# Altium schematic symbol library HW.SchLib: 328 symbols (part 2 of 10)
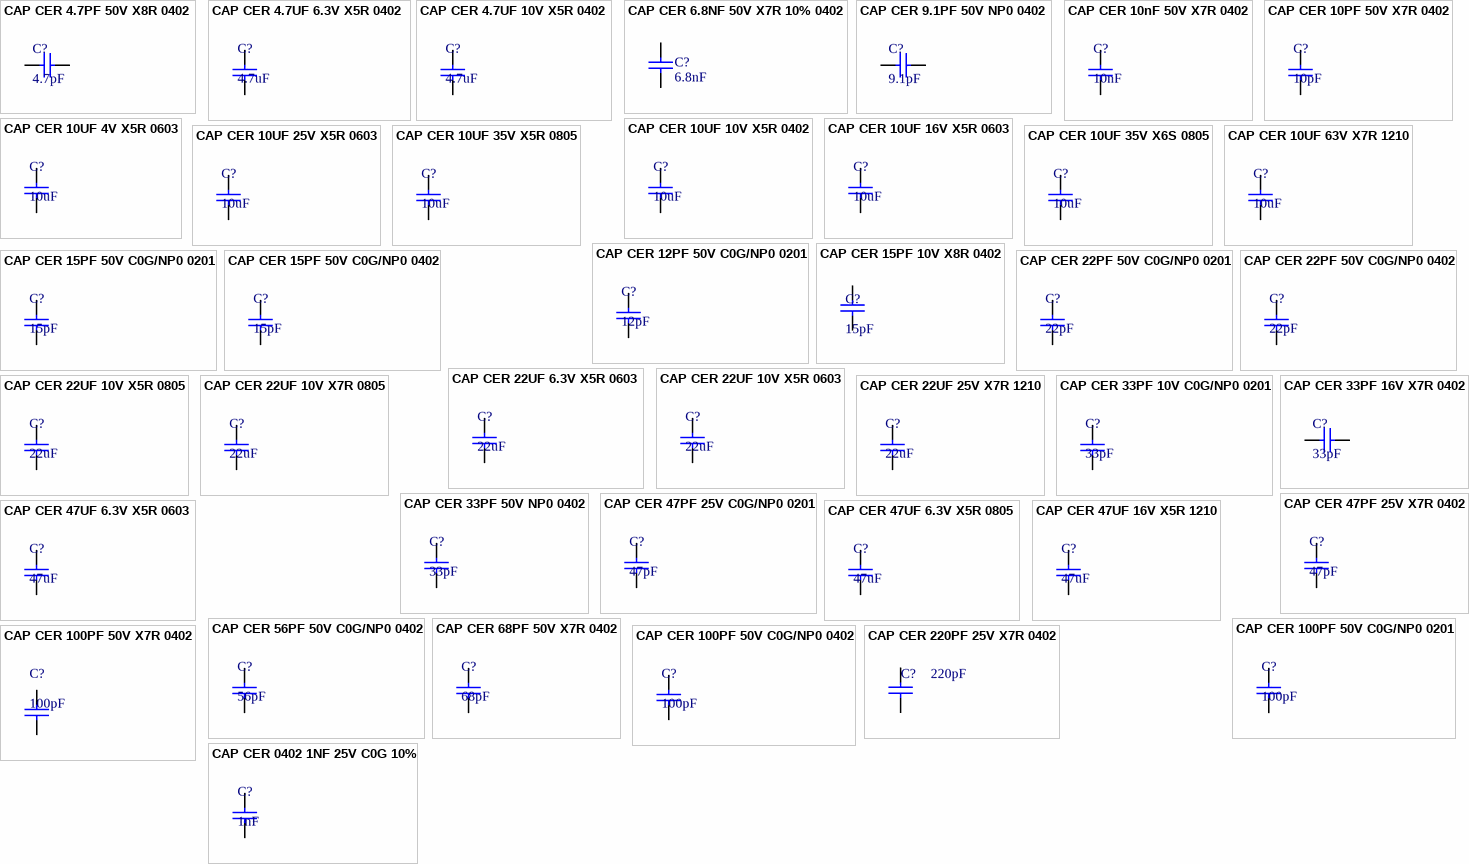
[diagram p24: symbols CAP CER 4.7PF 50V X8R 0402 to CAP CER 0402 1NF 25V C0G 10%]

## CAP CER 4.7UF 6.3V X5R 0402
designator C?, comment 4.7uF
Multilayer Ceramic Capacitor, 4.7 uF, 6.3 V, ± 20%, X5R, 0402 [1005 Metric]; Manufacturer: KEMET; Manufacturer Part Number: C0402C475M9PACTU; Dielectric Material: 4241ConductorMaterial; Voltage Rating: 6.3V; Supplier 1: Mouser; RoHS: Yes; Category: Ceramic Capacitors; Stock 1: 115357; Pricing 1: 1=0.36, 10=0.175, 50=0.175, 100=0.113, 1000=0.095, 10000=0.077 (USD); Mount: Surface Mount; Case/Package: 0402; Case Code (Metric): 1005; Case Code (Imperial): 0402; Material: 4241ConductorMaterial; Min Operating Temperature: -55°C; Max Operating Temperature: 85°C; Capacitance: 4.7uF; Dielectric: X5R; Packaging: Cut Tape; Tolerance: 20%; Series: C; Voltage Rating (DC): 6.3V; Length: 0.039inch; Width: 0.02inch; Height: 650um; Thickness: 0.026inch; Reach SVHC Compliant: No; RoHS Compliant: Yes; Lead Free: 5697LeadFree; ComponentLink1URL: http://www.farnell.com/datasheets/2741307.pdf?src-supplier=Farnell; ComponentLink1Description: http://www.farnell.com/datasheets/2741307.pdf?src-supplier=Farnell; ComponentLink2URL: http://www.farnell.com/datasheets/2741307.pdf?src-supplier=Newark; ComponentLink2Description: http://www.farnell.com/datasheets/2741307.pdf?src-supplier=Newark; ComponentLink3URL: http://www.farnell.com/datasheets/2741307.pdf?src-supplier=Element14; ComponentLink3Description: http://www.farnell.com/datasheets/2741307.pdf?src-supplier=Element14; ComponentLink4URL: https://api.kemet.com/component-edge/download/datasheet/C0402C475M9PAC7867.pdf?src-supplier=Digi-Key; ComponentLink4Description: https://api.kemet.com/component-edge/download/datasheet/C0402C475M9PAC7867.pdf?src-supplier=Digi-Key; Supplier Part Number 1: 80-C0402C475M9P
footprint C0402
pins: 1, 2

## CAP CER 4.7UF 10V X5R 0402
designator C?, comment 4.7uF
Multilayer Ceramic Capacitor, 4.7 uF, 10 V, ± 20%, X5R, 0402 [1005 Metric]; Manufacturer: Murata; Manufacturer Part Number: GRT155R61A475ME13D; Material: 4241ConductorMaterial; Voltage Rating: 10V; Supplier 1: Future Electronics; RoHS: Yes; Category: Ceramic Capacitors; Stock 1: 20000; Pricing 1: 10000=0.0204, 20000=0.0199, 40000=0.0195, 50000=0.0193, 150000=0.0185 (USD); Case/Package: 343Case; Min Operating Temperature: -55°C; Max Operating Temperature: 85°C; Capacitance: 4.7uF; Tolerance: 20%; Length: 1mm; Width: 500um; Height: 650um; Thickness: 500um; RoHS Compliant: Yes; Supplier Part Number 1: 3148759
footprint C0402
pins: 1, 2

## CAP CER 6.8NF 50V X7R 10% 0402
designator C?, comment 6.8nF
Cap Cer 0402 6.8NF 50V X7R 10%; Manufacturer: KEMET; Manufacturer Part Number: C0402C682K5RECAUTO; Supplier 1: Mouser; RoHS: Yes; Category: Ceramic Capacitors; Stock 1: 20191; Pricing 1: 1=0.14, 10=0.057, 50=0.057, 100=0.034, 1000=0.028, 10000=0.02 (USD); Mount: Surface Mount; Case/Package: 0402; Min Operating Temperature: -55°C; Max Operating Temperature: 125°C; Series: ESD SMD Auto X7R; Packaging: Tape and Reel; Capacitance: 6.8nF; Tolerance: 10%; Voltage Rating: 50V; Ratings: AEC-Q200; RoHS Compliant: Yes; ComponentLink1URL: https://api.kemet.com/component-edge/download/datasheet/C0402C682K5RECAUTO.pdf?src-supplier=Digikey; ComponentLink1Description: https://api.kemet.com/component-edge/download/datasheet/C0402C682K5RECAUTO.pdf?src-supplier=Digikey; Supplier Part Number 1: 80-C0402C682K5RECAUT
footprint C0402
pins: 1, 2

## CAP CER 9.1PF 50V NP0 0402
designator C?, comment 9.1pF
Cap Ceramic 9.1pF 50V C0G 0.25pF SMD 0402 125°C Paper T/R; Manufacturer: KEMET; Manufacturer Part Number: C0402C919C5GAC7867; Supplier 1: Digikey; RoHS: Yes; Category: Ceramic Capacitors; Stock 1: 37999; Pricing 1: 1=0.1, 10=0.072, 50=0.0412, 100=0.0319, 500=0.02404, 1000=0.01889, 2500=0.01717, 5000=0.0158 (USD); ComponentLink1URL: https://api.kemet.com/component-edge/download/datasheet/C0402C919C5GAC7867.pdf?src-supplier=Digikey; ComponentLink1Description: https://api.kemet.com/component-edge/download/datasheet/C0402C919C5GAC7867.pdf?src-supplier=Digikey; ComponentLink2URL: http://capacitoredge.kemet.com/capedge2/DataSheet?pn=C0402C919C5GAC7867; ComponentLink2Description: http://capacitoredge.kemet.com/capedge2/DataSheet?pn=C0402C919C5GAC7867; Supplier Part Number 1: 399-14287-1-ND
footprint C0402
pins: 1, 2

## CAP CER 10nF 50V X7R 0402
designator C?, comment 10nF
ESD SMD Auto X7R 0402 (1005Metric) Ceramic Capacitor 0.039Lx0.020W 1.00mmx0.50mm X7R ±5% 10000pF; Manufacturer: KEMET; Manufacturer Part Number: C0402C103J5RECAUTO; Supplier 1: Mouser; RoHS: Yes; Category: Ceramic Capacitors; Stock 1: 37595; Pricing 1: 1=0.17, 10=0.07, 50=0.07, 100=0.041, 1000=0.034, 2500=0.029, 10000=0.025, 20000=0.024, 50000=0.023, 100000=0.017 (USD); RoHS Compliant: Yes; ComponentLink1URL: https://api.kemet.com/component-edge/download/datasheet/C0402C103J5RECAUTO.pdf?src-supplier=Digikey; ComponentLink1Description: https://api.kemet.com/component-edge/download/datasheet/C0402C103J5RECAUTO.pdf?src-supplier=Digikey; Supplier Part Number 1: 80-C0402C103J5RECAUT
footprint C0402
pins: 1, 2

## CAP CER 10PF 50V X7R 0402
designator C?, comment 10pF
Cap Ceramic 10pF 50V X7R 10% SMD 0402 125°C Paper T/R; Manufacturer: KEMET; Manufacturer Part Number: C0402C100K5RAC7867; Dielectric Material: 4241ConductorMaterial; Dielectric: 1511DielectricType; Supplier 1: Digikey; RoHS: Yes; Category: Ceramic Capacitors; Stock 1: 27739; Pricing 1: 1=0.1, 10=0.053, 50=0.0304, 100=0.0235, 500=0.01768, 1000=0.01389, 2500=0.01262, 5000=0.01162 (USD); Case/Package: 343Case; Capacitance: 10pF; Voltage Rating (DC): 50V; Supplier Part Number 1: 399-C0402C100K5RAC7867CT-ND
footprint C0402
pins: 1, 2

## CAP CER 10UF 4V X5R 0603
designator C?, comment 10uF
Ceramic Capacitor, Multilayer, Ceramic, 4V, X5R, -/+15ppm/Cel TC, 10uF, 0603; Manufacturer: KEMET; Manufacturer Part Number: C0603C106M7PAC7411; Supplier 1: Mouser; RoHS: Yes; Category: Ceramic Capacitors; Stock 1: 10482; Pricing 1: 1=0.24, 10=0.1, 50=0.1, 100=0.058, 1000=0.052, 10000=0.042 (USD); RoHS Compliant: Yes; Supplier Part Number 1: 80-C0603C106M7P7411
footprint C0402
pins: 1, 2

## CAP CER 10UF 10V X5R 0402
designator C?, comment 10uF
Multilayer Ceramic Capacitors MLCC - SMD/SMT 0402 10uF 10VDC 20% X5R AEC-Q200; Manufacturer: Murata; Manufacturer Part Number: GRT155R61A106ME13D; Material: 4241ConductorMaterial; Voltage Rating: 10V; Supplier 1: Mouser; RoHS: No; Category: Ceramic Capacitors; Stock 1: 15823; Pricing 1: 1=0.32, 10=0.155, 50=0.155, 100=0.1, 1000=0.083, 10000=0.072 (USD); Case/Package: 343Case; Min Operating Temperature: -55°C; Max Operating Temperature: 85°C; Capacitance: 10uF; Tolerance: 20%; Height: 700um; Supplier Part Number 1: 81-GRT155R61A106ME13
footprint C0402
pins: 1, 2

## CAP CER 10UF 16V X5R 0603
designator C?, comment 10uF
Multilayer Ceramic Capacitor, 10 uF, 16 V, ± 20%, X5R, 0603 [1608 Metric]; Manufacturer: Murata; Manufacturer Part Number: GRM188R61C106MAALD; Supplier 1: Mouser; RoHS: Yes; Category: Ceramic Capacitors; Stock 1: 91365; Pricing 1: 1=0.24, 10=0.111, 50=0.111, 100=0.067, 1000=0.052, 4000=0.048, 8000=0.047, 10000=0.047, 24000=0.045, 100000=0.044 (USD); Supplier Part Number 1: 81-GRM188R61C106MALD
footprint C0603C/1608MM (Chip Capacitor, 2-Leads, Body 1.6x0.8mm, IPC High Density)
pins: 1, 2

## CAP CER 10UF 25V X5R 0603
designator C?, comment 10uF
Multilayer Ceramic Capacitor, 10 uF, 25 V, ± 10%, X5R, 0603 [1608 Metric]; Manufacturer: Murata; Manufacturer Part Number: GRM188R61E106KA73D; Material: 4241ConductorMaterial; Dielectric: 1537DielectricType; Voltage Rating (DC): 25V; Supplier 1: Digikey; RoHS: Yes; Category: Ceramic Capacitors; Stock 1: 230315; Pricing 1: 1=0.26, 10=0.169, 50=0.1186, 100=0.0958, 500=0.0712, 1000=0.06229 (USD); Length: 1.6mm; Width: 800um; Height: 1mm; Thickness: 800um; ComponentLink1URL: https://datasheet.octopart.com/GRM188R61E106KA73D-Murata-datasheet-149523249.pdf?src-supplier=Newark; ComponentLink1Description: https://datasheet.octopart.com/GRM188R61E106KA73D-Murata-datasheet-149523249.pdf?src-supplier=Newark; ComponentLink2URL: https://search.murata.co.jp/Ceramy/image/img/A01X/G101/ENG/GRM188R61E106KA73-01.pdf?src-supplier=Digikey; ComponentLink2Description: https://search.murata.co.jp/Ceramy/image/img/A01X/G101/ENG/GRM188R61E106KA73-01.pdf?src-supplier=Digikey; ComponentLink3URL: https://datasheet.octopart.com/GRM188R61E106KA73D-Murata-datasheet-165579666.pdf?src-supplier=TME; ComponentLink3Description: https://datasheet.octopart.com/GRM188R61E106KA73D-Murata-datasheet-165579666.pdf?src-supplier=TME; Supplier Part Number 1: 490-18214-1-ND
footprint C0603C/1608MM (Chip Capacitor, 2-Leads, Body 1.6x0.8mm, IPC High Density)
pins: 1, 2

## CAP CER 10UF 35V X5R 0805
designator C?, comment 10uF
Multilayer Ceramic Capacitor, 10 uF, 35 V, ± 10%, X5R, 0805 [2012 Metric]; Manufacturer: TDK; Manufacturer Part Number: C2012X5R1V106K125AC; Material: 4241ConductorMaterial; Voltage Rating: 35V; Supplier 1: Avnet; RoHS: Yes; Category: Ceramic Capacitors; Stock 1: 2000; Pricing 1: 2000=0.169, 4000=0.164, 8000=0.157, 12000=0.15 (USD); Mount: Surface Mount; Case/Package: 0805; Case Code (Metric): 2012; Case Code (Imperial): 0805; Weight: 0.000194oz; Dielectric Material: Ceramic; Min Operating Temperature: -55°C; Max Operating Temperature: 85°C; Package Quantity: 2000; Packaging: Tape and Reel; Capacitance: 10uF; Tolerance: 10%; Dielectric: X5R; Termination: SMD/SMT; Voltage Rating (DC): 35V; Series: C; Length: 2mm; Width: 1.25mm; Height: 1.25mm; Reach SVHC Compliant: No; Lead Free: Lead Free; RoHS Compliant: Yes; ComponentLink1URL: https://datasheet.ciiva.com/14886/tdkmlcccaprange-14886603.pdf?src-supplier=Digikey; ComponentLink1Description: https://datasheet.ciiva.com/14886/tdkmlcccaprange-14886603.pdf?src-supplier=Digikey; ComponentLink2URL: https://datasheet.ciiva.com/14886/tdkmlcccaprange-14886602.pdf?src-supplier=Digikey; ComponentLink2Description: https://datasheet.ciiva.com/14886/tdkmlcccaprange-14886602.pdf?src-supplier=Digikey; ComponentLink3URL: https://datasheet.ciiva.com/14886/tdkmlcccaprange-14886604.pdf?src-supplier=Digikey; ComponentLink3Description: https://datasheet.ciiva.com/14886/tdkmlcccaprange-14886604.pdf?src-supplier=Digikey; Supplier Part Number 1: 92AH4428
footprint C0805B/2012MM (Chip Capacitor, 2-Leads, Body 2.0x1.3mm, IPC Medium Density)
pins: 1, 2

## CAP CER 10UF 35V X6S 0805
designator C?, comment 10uF
Multilayer Ceramic Capacitor, 10 uF, 35 V, ± 10%, X6S, 0805 [2012 Metric]; Manufacturer: Murata; Manufacturer Part Number: GRM21BC8YA106KE11L; Material: 4241ConductorMaterial; Voltage Rating: 35V; Supplier 1: Mouser; RoHS: Yes; Category: Ceramic Capacitors; Stock 1: 89886; Pricing 1: 1=0.41, 10=0.212, 50=0.212, 100=0.137, 1000=0.11, 10000=0.087 (USD); Mount: Surface Mount; Case/Package: 0805; Case Code (Metric): 2012; Case Code (Imperial): 0805; Weight: 0.000335oz; Min Operating Temperature: -55°C; Max Operating Temperature: 105°C; Capacitance: 10uF; Packaging: Tape and Reel; Dielectric: X6S; Tolerance: 10%; Termination: SMD/SMT; Voltage Rating (DC): 35V; Package Quantity: 3000; Series: GRM; Length: 0.079inch; Width: 0.049inch; Height: 1.25mm; Thickness: 0.057inch; Reach SVHC Compliant: No; Lead Free: Lead Free; RoHS Compliant: Yes; ComponentLink1URL: http://www.farnell.com/datasheets/2079180.pdf?src-supplier=Farnell; ComponentLink1Description: http://www.farnell.com/datasheets/2079180.pdf?src-supplier=Farnell; ComponentLink2URL: http://www.mouser.com/ds/2/281/c02e-2905.pdf?src-supplier=Mouser; ComponentLink2Description: http://www.mouser.com/ds/2/281/c02e-2905.pdf?src-supplier=Mouser; ComponentLink3URL: https://datasheet.octopart.com/GRM21BC8YA106KE11L-Murata-datasheet-66077106.pdf?src-supplier=Element14; ComponentLink3Description: https://datasheet.octopart.com/GRM21BC8YA106KE11L-Murata-datasheet-66077106.pdf?src-supplier=Element14; ComponentLink4URL: https://datasheet.octopart.com/GRM21BC8YA106KE11L-Murata-datasheet-149523463.pdf?src-supplier=Farnell; ComponentLink4Description: https://datasheet.octopart.com/GRM21BC8YA106KE11L-Murata-datasheet-149523463.pdf?src-supplier=Farnell; ComponentLink5URL: http://search.murata.co.jp/Ceramy/image/img/A01X/G101/ENG/GRM21BC8YA106KE11-01.pdf?src-supplier=Digikey; ComponentLink5Description: http://search.murata.co.jp/Ceramy/image/img/A01X/G101/ENG/GRM21BC8YA106KE11-01.pdf?src-supplier=Digikey; ComponentLink6URL: https://datasheet.octopart.com/GRM21BC8YA106KE11L-Murata-datasheet-22122223.pdf?src-supplier=Future+Electronics; ComponentLink6Description: https://datasheet.octopart.com/GRM21BC8YA106KE11L-Murata-datasheet-22122223.pdf?src-supplier=Future+Electronics; ComponentLink7URL: http://www.farnell.com/datasheets/2079180.pdf?src-supplier=Newark; ComponentLink7Description: http://www.farnell.com/datasheets/2079180.pdf?src-supplier=Newark; ComponentLink8URL: https://datasheet.octopart.com/GRM21BC8YA106KE11L-Murata-datasheet-165579666.pdf?src-supplier=TME; ComponentLink8Description: https://datasheet.octopart.com/GRM21BC8YA106KE11L-Murata-datasheet-165579666.pdf?src-supplier=TME; Supplier Part Number 1: 81-GRM21BC8YA106KE1L
footprint C0805B/2012MM (Chip Capacitor, 2-Leads, Body 2.0x1.3mm, IPC Medium Density)
pins: 1, 2

## CAP CER 10UF 63V X7R 1210
designator C?, comment 10uF
Multilayer Ceramic Capacitors MLCC - SMD/SMT 1210 10uF 63volts *Derate Voltage/Temp; Manufacturer: Murata; Manufacturer Part Number: GRM32ER71J106KA12L; Supplier 1: Mouser; RoHS: Yes; Category: Ceramic Capacitors; Stock 1: 157157; Pricing 1: 1=1.05, 10=0.674, 50=0.674, 100=0.547, 500=0.449, 1000=0.37, 2000=0.34, 10000=0.326, 25000=0.318 (USD); ComponentLink1URL: http://www.farnell.com/datasheets/2079202.pdf?src-supplier=Farnell; ComponentLink1Description: http://www.farnell.com/datasheets/2079202.pdf?src-supplier=Farnell; ComponentLink2URL: http://www.mouser.com/ds/2/281/c02e-2905.pdf?src-supplier=Mouser; ComponentLink2Description: http://www.mouser.com/ds/2/281/c02e-2905.pdf?src-supplier=Mouser; ComponentLink3URL: http://search.murata.co.jp/Ceramy/image/img/A01X/G101/ENG/GRM32ER71J106KA12-01.pdf?src-supplier=Digikey; ComponentLink3Description: http://search.murata.co.jp/Ceramy/image/img/A01X/G101/ENG/GRM32ER71J106KA12-01.pdf?src-supplier=Digikey; ComponentLink4URL: https://datasheet.octopart.com/GRM32ER71J106KA12L-Murata-datasheet-22122223.pdf?src-supplier=Future+Electronics; ComponentLink4Description: https://datasheet.octopart.com/GRM32ER71J106KA12L-Murata-datasheet-22122223.pdf?src-supplier=Future+Electronics; ComponentLink5URL: http://psearch.en.murata.com/capacitor/product/GRM32ER71J106KA12%23.pdf?src-supplier=Avnet; ComponentLink5Description: http://psearch.en.murata.com/capacitor/product/GRM32ER71J106KA12%23.pdf?src-supplier=Avnet; ComponentLink6URL: http://www.farnell.com/datasheets/2079202.pdf?src-supplier=Element14; ComponentLink6Description: http://www.farnell.com/datasheets/2079202.pdf?src-supplier=Element14; ComponentLink7URL: http://www.farnell.com/datasheets/2079202.pdf?src-supplier=Newark; ComponentLink7Description: http://www.farnell.com/datasheets/2079202.pdf?src-supplier=Newark; Supplier Part Number 1: 81-GRM32ER71J106KA2L
footprint C1210/3225MM
pins: 1, 2

## CAP CER 12PF 50V C0G/NP0 0201
designator C?, comment 12pF
Multilayer Ceramic Capacitor, 12 pF, 50 V, ± 1%, C0G (NP0), 0201 [0603 Metric]; Manufacturer: Murata; Manufacturer Part Number: GRM0335C1H120FA01D; Supplier 1: Future Electronics; RoHS: Yes; Category: Ceramic Capacitors; Stock 1: 15000; Pricing 1: 15000=0.0043, 45000=0.0041, 75000=0.004, 300000=0.0038, 450000=0.0037 (USD); ComponentLink1URL: https://datasheet.octopart.com/GRM0335C1H120FA01D-Murata-datasheet-165579666.pdf?src-supplier=TME; ComponentLink1Description: https://datasheet.octopart.com/GRM0335C1H120FA01D-Murata-datasheet-165579666.pdf?src-supplier=TME; Supplier Part Number 1: 6135170
footprint C0201
pins: 1, 2

## CAP CER 15PF 10V X8R 0402
designator C?, comment 15pF
Cap Cer 0402 15PF 10V Ultra Stab; Manufacturer: KEMET; Manufacturer Part Number: C0402C150J8HAC7867; Supplier 1: Digikey; RoHS: No; Category: Ceramic Capacitors; Stock 1: 19700; Pricing 1: 1=0.1, 10=0.036, 50=0.0206, 100=0.016, 500=0.01202, 1000=0.00944, 2500=0.00858, 5000=0.0079 (USD); Supplier Part Number 1: 399-C0402C150J8HAC7867CT-ND
footprint C0402
pins: 1, 2

## CAP CER 15PF 50V C0G/NP0 0201
designator C?, comment 15pF
0201 15pF 50V C0G 1% - Multilayer Ceramic Capacitors; Manufacturer: Murata; Manufacturer Part Number: GRM0335C1H150FA01D; Supplier 1: Mouser; RoHS: Yes; Category: Ceramic Capacitors; Stock 1: 89127; Pricing 1: 1=0.1, 10=0.019, 50=0.019, 100=0.011, 1000=0.007, 10000=0.006 (USD); ComponentLink1URL: https://datasheet.octopart.com/GRM0335C1H150FA01D-Murata-datasheet-165579666.pdf?src-supplier=TME; ComponentLink1Description: https://datasheet.octopart.com/GRM0335C1H150FA01D-Murata-datasheet-165579666.pdf?src-supplier=TME; Supplier Part Number 1: 81-GRM0335C1H150FA1D
footprint C0201
pins: 1, 2

## CAP CER 15PF 50V C0G/NP0 0402
designator C?, comment 15pF
Cap Ceramic 15pF 50V C0G 1% Pad SMD 0402 125C Automotive T/R; Manufacturer: Murata; Manufacturer Part Number: GCM1555C1H150FA16D; Supplier 1: Future Electronics; RoHS: Yes; Category: Ceramic Capacitors; Stock 1: 50000; Pricing 1: 50000=0.0082, 100000=0.008, 150000=0.0079, 200000=0.0079, 250000=0.0077 (USD); ComponentLink1URL: http://search.murata.co.jp/Ceramy/image/img/A01X/G101/ENG/GCM1555C1H150FA16-01.pdf?src-supplier=Digikey; ComponentLink1Description: http://search.murata.co.jp/Ceramy/image/img/A01X/G101/ENG/GCM1555C1H150FA16-01.pdf?src-supplier=Digikey; ComponentLink2URL: http://search.murata.co.jp/Ceramy/image/img/A01X/partnumbering_e_02.pdf?src-supplier=Digikey; ComponentLink2Description: http://search.murata.co.jp/Ceramy/image/img/A01X/partnumbering_e_02.pdf?src-supplier=Digikey; ComponentLink3URL: https://datasheet.octopart.com/GCM1555C1H150FA16D-Murata-datasheet-149522311.pdf?src-supplier=Newark; ComponentLink3Description: https://datasheet.octopart.com/GCM1555C1H150FA16D-Murata-datasheet-149522311.pdf?src-supplier=Newark; ComponentLink4URL: https://datasheet.octopart.com/GCM1555C1H150FA16D-Murata-datasheet-12511495.pdf?src-supplier=TME; ComponentLink4Description: https://datasheet.octopart.com/GCM1555C1H150FA16D-Murata-datasheet-12511495.pdf?src-supplier=TME; Supplier Part Number 1: 6128733
footprint C0402
pins: 1, 2

## CAP CER 22PF 50V C0G/NP0 0201
designator C?, comment 22pF
Multilayer Ceramic Capacitor, 22 pF, 50 V, ± 5%, C0G (NP0), 0201 [0603 Metric]; Manufacturer: Murata; Manufacturer Part Number: GRM0335C1H220JA01D; Voltage Rating: 50V; Temperature Coefficient: 30ppm/°C; Supplier 1: Future Electronics; RoHS: Yes; Category: Ceramic Capacitors; Stock 1: 60000; Pricing 1: 15000=0.0014, 60000=0.0013, 300000=0.0013, 600000=0.0012, 1875000=0.0011 (USD); Mount: Surface Mount; Case/Package: 0201; Case Code (Metric): 0603; Case Code (Imperial): 0201; Material: Ceramic; Min Operating Temperature: -55°C; Max Operating Temperature: 125°C; Package Quantity: 1; Capacitance: 22pF; Tolerance: 5%; Packaging: Tape and Reel; Dielectric: C0G; Termination: SMD/SMT; Voltage: 50V; Voltage Rating (DC): 50V; Series: GRM; Length: 0.024inch; Width: 0.012inch; Height: 0.3mm; Depth: 0.3mm; Lead Free: Lead Free; RoHS Compliant: Yes; ComponentLink1URL: https://datasheet.ciiva.com/6271/partnumbering-e-01-6271146.pdf?src-supplier=Digikey; ComponentLink1Description: https://datasheet.ciiva.com/6271/partnumbering-e-01-6271146.pdf?src-supplier=Digikey; ComponentLink2URL: https://datasheet.ciiva.com/6271/partnumbering-e-01-6271143.pdf?src-supplier=Digikey; ComponentLink2Description: https://datasheet.ciiva.com/6271/partnumbering-e-01-6271143.pdf?src-supplier=Digikey; ComponentLink3URL: https://datasheet.ciiva.com/6271/partnumbering-e-01-6271149.pdf?src-supplier=Digikey; ComponentLink3Description: https://datasheet.ciiva.com/6271/partnumbering-e-01-6271149.pdf?src-supplier=Digikey; Supplier Part Number 1: 2083835
footprint C0201
pins: 1, 2

## CAP CER 22PF 50V C0G/NP0 0402
designator C?, comment 22pF
Multilayer Ceramic Capacitor, 22 pF, 50 V, ï¿½ 1%, C0G (NP0), 0402 [1005 Metric]; Manufacturer: Murata; Manufacturer Part Number: GRM1555C1H220FA01D; Supplier 1: Future Electronics; RoHS: Yes; Category: Ceramic Capacitors; Stock 1: 20000; Pricing 1: 10000=0.0084, 30000=0.0082, 50000=0.0081, 150000=0.0079, 250000=0.0077 (USD); Lead Free: 5697LeadFree; RoHS Compliant: 5897YesNo; ComponentLink1URL: https://datasheet.ciiva.com/11789/0900766b80ef921d-11789137.pdf?src-supplier=Rs; ComponentLink1Description: https://datasheet.ciiva.com/11789/0900766b80ef921d-11789137.pdf?src-supplier=Rs; ComponentLink2URL: https://datasheet.ciiva.com/29534/partnumbering-e-01-29534686.pdf?src-supplier=Digikey; ComponentLink2Description: https://datasheet.ciiva.com/29534/partnumbering-e-01-29534686.pdf?src-supplier=Digikey; ComponentLink3URL: https://datasheet.ciiva.com/29536/partnumbering-e-01-29536087.pdf?src-supplier=Digikey; ComponentLink3Description: https://datasheet.ciiva.com/29536/partnumbering-e-01-29536087.pdf?src-supplier=Digikey; ComponentLink4URL: https://datasheet.ciiva.com/29536/partnumbering-e-01-29536088.pdf?src-supplier=Digikey; ComponentLink4Description: https://datasheet.ciiva.com/29536/partnumbering-e-01-29536088.pdf?src-supplier=Digikey; Supplier Part Number 1: 2060471
footprint C0402
pins: 1, 2

## CAP CER 22UF 6.3V X5R 0603
designator C?, comment 22uF
Cap Ceramic 22uF 6.3V X5R 20% SMD 0603 85°C Paper T/R; Manufacturer: KEMET; Manufacturer Part Number: C0603C226M9PAC7867; Dielectric: 1537DielectricType; Supplier 1: Digikey; RoHS: No; Category: Ceramic Capacitors; Stock 1: 3721; Pricing 1: 1=0.63, 10=0.425, 50=0.3384, 100=0.2795, 500=0.21836, 1000=0.18561 (USD); Case/Package: 345Case; Capacitance: 22uF; Voltage Rating (DC): 6.3V; Lead Free: 5697LeadFree; Supplier Part Number 1: 399-C0603C226M9PAC7867CT-ND
footprint C0603C/1608MM (Chip Capacitor, 2-Leads, Body 1.6x0.8mm, IPC High Density)
pins: 1, 2

## CAP CER 22UF 10V X5R 0603
designator C?, comment 22uF
Multilayer Ceramic Capacitor, 22 uF, 10 V, ± 20%, X5R, 0603 [1608 Metric]; Manufacturer: Murata; Manufacturer Part Number: GRM188R61A226ME15D; Voltage Rating: 10V; Supplier 1: Future Electronics; RoHS: Yes; Category: Ceramic Capacitors; Stock 1: 720000; Pricing 1: 4000=0.0273, 12000=0.0263, 20000=0.0258, 40000=0.0252, 80000=0.0243 (USD); Mount: Surface Mount; Case/Package: 0603; Case Code (Metric): 1608; Case Code (Imperial): 0603; Material: Ceramic; Weight: 0.000222oz; Min Operating Temperature: -55°C; Max Operating Temperature: 85°C; Capacitance: 22uF; Tolerance: 20%; Packaging: Cut Tape; Dielectric: X5R; Termination: SMD/SMT; Voltage Rating (DC): 10V; Package Quantity: 4000; Series: GRM; Length: 1.6mm; Width: 0.8mm; Height: 0.8mm; Thickness: 0.039inch; Reach SVHC Compliant: No; RoHS Compliant: Yes; Lead Free: 5697LeadFree; ComponentLink1URL: https://datasheet.ciiva.com/46444/1769893-46444975.pdf?src-supplier=Element14; ComponentLink1Description: https://datasheet.ciiva.com/46444/1769893-46444975.pdf?src-supplier=Element14; Supplier Part Number 1: 4058054
footprint C0603C/1608MM (Chip Capacitor, 2-Leads, Body 1.6x0.8mm, IPC High Density)
pins: 1, 2

## CAP CER 22UF 10V X5R 0805
designator C?, comment 22uF
Multilayer Ceramic Capacitors (High dielectric type), 10V, 22 uF, ± 20 %, 0805, X5R, RoHS; Manufacturer: Taiyo Yuden; Manufacturer Part Number: LMK212BBJ226MG-T; Tolerance: 20%; Supplier 1: Avnet; RoHS: Yes; Category: Ceramic Capacitors; Stock 1: 123000; Pricing 1: 3000=0.04824, 6000=0.04715, 12000=0.04499, 18000=0.0439, 24000=0.04282 (USD); Mount: Surface Mount; Case/Package: 0805; Min Operating Temperature: -55°C; Max Operating Temperature: 85°C; Capacitance: 22uF; Dielectric: X5R; Voltage: 10V; Series: M; Voltage Rating (DC): 10V; Length: 2mm; Height: 1.25mm; Depth: 1.25mm; RoHS Compliant: Yes; ComponentLink1URL: https://datasheet.octopart.com/LMK212BBJ226MG-T-Taiyo-Yuden-datasheet-99833423.pdf?src-supplier=Future+Electronics; ComponentLink1Description: https://datasheet.octopart.com/LMK212BBJ226MG-T-Taiyo-Yuden-datasheet-99833423.pdf?src-supplier=Future+Electronics; ComponentLink2URL: http://ds.yuden.co.jp/TYCOMPAS/ut/detail.do?productNo=LMK212BBJ226MG-T&fileName=LMK212BBJ226MG-T_SS&mode=specSheetDownload&src-supplier=Digikey; ComponentLink2Description: http://ds.yuden.co.jp/TYCOMPAS/ut/detail.do?productNo=LMK212BBJ226MG-T&fileName=LMK212BBJ226MG-T_SS&mode=specSheetDownload&src-supplier=Digikey; ComponentLink3URL: https://ds.yuden.co.jp/TYCOMPAS/ut/detail?pn=LMK212BBJ226MG-T &amp;u=M&src-supplier=Digikey; ComponentLink3Description: https://ds.yuden.co.jp/TYCOMPAS/ut/detail?pn=LMK212BBJ226MG-T &amp;u=M&src-supplier=Digikey; ComponentLink4URL: https://datasheet.octopart.com/LMK212BBJ226MG-T-Taiyo-Yuden-datasheet-154807940.pdf?src-supplier=Master+Electronics; ComponentLink4Description: https://datasheet.octopart.com/LMK212BBJ226MG-T-Taiyo-Yuden-datasheet-154807940.pdf?src-supplier=Master+Electronics; Supplier Part Number 1: LMK212BBJ226MG-T
footprint C0805B/2012MM (Chip Capacitor, 2-Leads, Body 2.0x1.3mm, IPC Medium Density)
pins: 1, 2

## CAP CER 22UF 10V X7R 0805
designator C?, comment 22uF
Multilayer Ceramic Capacitor, 22 uF, 10 V, ± 20%, X7R, 0805 [2012 Metric]; Manufacturer: Murata; Manufacturer Part Number: GRM21BZ71A226ME15L; Material: 4241ConductorMaterial; Voltage Rating: 10V; Supplier 1: Digikey; RoHS: Yes; Category: Ceramic Capacitors; Stock 1: 88859; Pricing 1: 1=0.37, 10=0.247, 50=0.1818, 100=0.148, 500=0.11682, 1000=0.09865 (USD); Case/Package: 339Case; Min Operating Temperature: -55°C; Max Operating Temperature: 125°C; Tolerance: 20%; Capacitance: 22uF; Length: 2mm; Width: 1.25mm; Height: 1.45mm; Thickness: 1.25mm; ComponentLink1URL: https://datasheet.octopart.com/GRM21BZ71A226ME15L-Murata-datasheet-165579666.pdf?src-supplier=TME; ComponentLink1Description: https://datasheet.octopart.com/GRM21BZ71A226ME15L-Murata-datasheet-165579666.pdf?src-supplier=TME; Supplier Part Number 1: 490-GRM21BZ71A226ME15LCT-ND
footprint C0805B/2012MM (Chip Capacitor, 2-Leads, Body 2.0x1.3mm, IPC Medium Density)
pins: 1, 2

## CAP CER 22UF 25V X7R 1210
designator C?, comment 22uF
Multilayer Ceramic Capacitor, 22 uF, 25 V, ± 10%, X7R, 1210 [3225 Metric]; Manufacturer: Murata; Manufacturer Part Number: GRM32ER71E226KE15L; Color: 46Colour; Voltage Rating: 25V; Current Rating: 3A; Gender: 29Gender; Supplier 1: Mouser; RoHS: Yes; Category: Ceramic Capacitors; Stock 1: 193776; Pricing 1: 1=0.66, 10=0.438, 50=0.438, 100=0.358, 500=0.306, 1000=0.258, 2000=0.242, 5000=0.226, 10000=0.218, 25000=0.209 (USD); Mount: Surface Mount; Case/Package: 1210; Number of Pins: 2; Case Code (Metric): 3225; Case Code (Imperial): 1210; Material: Ceramic; Contact Material: 150ConductorMaterial; Contact Plating: 157ConductorMaterial; Min Operating Temperature: -55°C; Max Operating Temperature: 125°C; Capacitance: 22uF; Tolerance: 10%; Dielectric: X7R; Packaging: Tape and Reel; Package Quantity: 1; Voltage Rating (DC): 25V; Termination: SMD/SMT; Voltage: 25V; Series: GRM; Construction: Flat; Length: 3.2mm; Width: 0.098inch; Height: 2.5mm; Thickness: 0.106inch; Depth: 2.5mm; Lead Pitch: 2.54mm; Radiation Hardening: No; Reach SVHC Compliant: No; Lead Free: Lead Free; RoHS Compliant: Yes; ComponentLink1URL: https://datasheet.ciiva.com/6072/1697714-6072768.pdf?src-supplier=Farnell; ComponentLink1Description: https://datasheet.ciiva.com/6072/1697714-6072768.pdf?src-supplier=Farnell; ComponentLink2URL: https://datasheet.ciiva.com/3776/2741grm32er71e226ke1523-3776996.pdf?src-supplier=Arrow+Electronics; ComponentLink2Description: https://datasheet.ciiva.com/3776/2741grm32er71e226ke1523-3776996.pdf?src-supplier=Arrow+Electronics; ComponentLink3URL: https://datasheet.ciiva.com/11789/0900766b80ef921d-11789129.pdf?src-supplier=Rs; ComponentLink3Description: https://datasheet.ciiva.com/11789/0900766b80ef921d-11789129.pdf?src-supplier=Rs; ComponentLink4URL: https://datasheet.ciiva.com/16497/product-16497009.pdf?src-supplier=Future+Electronics; ComponentLink4Description: https://datasheet.ciiva.com/16497/product-16497009.pdf?src-supplier=Future+Electronics; ComponentLink5URL: https://datasheet.ciiva.com/29201/451826-da-01-de-vs-kondens-grm32-er71e-226ke15l-29201795.pdf?src-supplier=Conrad; ComponentLink5Description: https://datasheet.ciiva.com/29201/451826-da-01-de-vs-kondens-grm32-er71e-226ke15l-29201795.pdf?src-supplier=Conrad; ComponentLink6URL: https://datasheet.ciiva.com/175/partnumbering-e-01-175746.pdf?src-supplier=Digikey; ComponentLink6Description: https://datasheet.ciiva.com/175/partnumbering-e-01-175746.pdf?src-supplier=Digikey; ComponentLink7URL: https://datasheet.ciiva.com/175/partnumbering-e-01-175747.pdf?src-supplier=Digikey; ComponentLink7Description: https://datasheet.ciiva.com/175/partnumbering-e-01-175747.pdf?src-supplier=Digikey; ComponentLink8URL: https://datasheet.ciiva.com/175/partnumbering-e-01-175748.pdf?src-supplier=Digikey; ComponentLink8Description: https://datasheet.ciiva.com/175/partnumbering-e-01-175748.pdf?src-supplier=Digikey; ComponentLink9URL: https://datasheet.ciiva.com/22703/1697714-22703397.pdf?src-supplier=Element14; ComponentLink9Description: https://datasheet.ciiva.com/22703/1697714-22703397.pdf?src-supplier=Element14; Supplier Part Number 1: 81-GRM32ER71E226KE5L
footprint C1210/3225MM
pins: 1, 2

## CAP CER 33PF 10V C0G/NP0 0201
designator C?, comment 33pF
Cap Ceramic 33pF 10V C0G 5% SMD 0201 125°C Paper T/R; Manufacturer: KEMET; Manufacturer Part Number: C0201C330J8GAC7867; Supplier 1: Digikey; RoHS: Yes; Category: Ceramic Capacitors; Stock 1: 22116; Pricing 1: 1=0.1, 10=0.033, 50=0.0192, 100=0.0149, 500=0.01118, 1000=0.00879, 2500=0.00799, 5000=0.00735 (USD); Mount: Surface Mount; Case/Package: 0201; Min Operating Temperature: -55°C; Max Operating Temperature: 125°C; Series: SMD Comm C0G; Tolerance: 5%; Voltage Rating: 10V; Capacitance: 33pF; RoHS Compliant: Yes; Supplier Part Number 1: 399-C0201C330J8GAC7867CT-ND
footprint C0201
pins: 1, 2

## CAP CER 33PF 16V X7R 0402
designator C?, comment 33pF
Cap Ceramic 33pF 16V X7R 5% Pad SMD 0402 125C Automotive T/R; Manufacturer: KEMET; Manufacturer Part Number: C0402C330J4RACAUTO; Supplier 1: Mouser; RoHS: Yes; Category: Ceramic Capacitors; Stock 1: 35123; Pricing 1: 1=0.13, 10=0.055, 50=0.055, 100=0.032, 1000=0.027, 2500=0.023, 10000=0.022, 20000=0.019, 50000=0.017, 100000=0.014 (USD); ComponentLink1URL: http://www.farnell.com/datasheets/2749605.pdf?src-supplier=Farnell; ComponentLink1Description: http://www.farnell.com/datasheets/2749605.pdf?src-supplier=Farnell; ComponentLink2URL: https://datasheet.octopart.com/C0402C330J4RACAUTO-KEMET-datasheet-169906450.pdf?src-supplier=Newark; ComponentLink2Description: https://datasheet.octopart.com/C0402C330J4RACAUTO-KEMET-datasheet-169906450.pdf?src-supplier=Newark; ComponentLink3URL: http://www.farnell.com/datasheets/2749605.pdf?src-supplier=Newark; ComponentLink3Description: http://www.farnell.com/datasheets/2749605.pdf?src-supplier=Newark; ComponentLink4URL: https://datasheet.octopart.com/C0402C330J4RACAUTO-KEMET-datasheet-149521674.pdf?src-supplier=Farnell; ComponentLink4Description: https://datasheet.octopart.com/C0402C330J4RACAUTO-KEMET-datasheet-149521674.pdf?src-supplier=Farnell; ComponentLink5URL: https://api.kemet.com/component-edge/download/datasheet/C0402C330J4RACAUTO.pdf?src-supplier=Digikey; ComponentLink5Description: https://api.kemet.com/component-edge/download/datasheet/C0402C330J4RACAUTO.pdf?src-supplier=Digikey; ComponentLink6URL: https://search.kemet.com/component-edge/download/datasheet/C0402C330J4RACAUTO.pdf?src-supplier=Digikey; ComponentLink6Description: https://search.kemet.com/component-edge/download/datasheet/C0402C330J4RACAUTO.pdf?src-supplier=Digikey; ComponentLink7URL: http://www.kemet.com/docfinder?Partnumber=C0402C330J4RACAUTO&src-supplier=Digikey; ComponentLink7Description: http://www.kemet.com/docfinder?Partnumber=C0402C330J4RACAUTO&src-supplier=Digikey; ComponentLink8URL: http://www.farnell.com/datasheets/2749605.pdf?src-supplier=Element14; ComponentLink8Description: http://www.farnell.com/datasheets/2749605.pdf?src-supplier=Element14; ComponentLink9URL: https://datasheet.octopart.com/C0402C330J4RACAUTO-KEMET-datasheet-153706760.pdf?src-supplier=Electro+Sonic; ComponentLink9Description: https://datasheet.octopart.com/C0402C330J4RACAUTO-KEMET-datasheet-153706760.pdf?src-supplier=Electro+Sonic; Supplier Part Number 1: 80-C0402C330J4RAUTO
footprint C0402
pins: 1, 2

## CAP CER 33PF 50V NP0 0402
designator C?, comment 33pF
CGA Series 0402 33 pF 50 V ±5 % Tolerance NP0 SMT Multilayer Ceramic Capacitor; Manufacturer: TDK; Manufacturer Part Number: CGA2B2NP01H330J050BA; Tolerance: 5%; Voltage Rating: 50V; Supplier 1: Avnet; RoHS: Yes; Category: Ceramic Capacitors; Stock 1: 10000; Pricing 1: 10000=0.00818 (USD); Mount: Surface Mount; Case/Package: 0402; Case Code (Metric): 1005; Case Code (Imperial): 0402; Min Operating Temperature: -55°C; Max Operating Temperature: 150°C; Capacitance: 33pF; Package Quantity: 10000; Packaging: Cut Tape; Features: High Temperature; Series: CGA; Length: 0.039inch; Width: 0.02inch; Thickness: 0.022inch; Ratings: AEC-Q200; Lead Free: Lead Free; RoHS Compliant: Yes; ComponentLink1URL: http://www.farnell.com/datasheets/2628295.pdf?src-supplier=Farnell; ComponentLink1Description: http://www.farnell.com/datasheets/2628295.pdf?src-supplier=Farnell; ComponentLink2URL: https://product.tdk.com/info/en/catalog/spec/mlccspec_automotive_hightemp_en.pdf?src-supplier=Digikey; ComponentLink2Description: https://product.tdk.com/info/en/catalog/spec/mlccspec_automotive_hightemp_en.pdf?src-supplier=Digikey; ComponentLink3URL: https://product.tdk.com/info/en/documents/chara_sheet/CGA2B2NP01H330J050BA.pdf?src-supplier=Digikey; ComponentLink3Description: https://product.tdk.com/info/en/documents/chara_sheet/CGA2B2NP01H330J050BA.pdf?src-supplier=Digikey; ComponentLink4URL: http://product.tdk.com/en/catalog/datasheets/mlcc_automotive_hightemp_en.pdf?src-supplier=Avnet; ComponentLink4Description: http://product.tdk.com/en/catalog/datasheets/mlcc_automotive_hightemp_en.pdf?src-supplier=Avnet; ComponentLink5URL: http://www.farnell.com/datasheets/2628295.pdf?src-supplier=Newark; ComponentLink5Description: http://www.farnell.com/datasheets/2628295.pdf?src-supplier=Newark; Supplier Part Number 1: CGA2B2NP01H330J050BA
footprint C0402
pins: 1, 2

## CAP CER 47PF 25V C0G/NP0 0201
designator C?, comment 47pF
Multilayer Ceramic Capacitor, 47 pF, 25 V, ± 1%, C0G (NP0), 0201 [0603 Metric]; Manufacturer: Murata; Manufacturer Part Number: GRM0335C1E470FA01D; Voltage Rating: 25V; Supplier 1: Mouser; RoHS: Yes; Category: Ceramic Capacitors; Stock 1: 283318; Pricing 1: 1=0.1, 10=0.013, 50=0.013, 100=0.008, 1000=0.006, 10000=0.005 (USD); Mount: Surface Mount; Case/Package: 0201; Case Code (Metric): 0603; Case Code (Imperial): 0201; Min Operating Temperature: -55°C; Max Operating Temperature: 125°C; Capacitance: 47pF; Tolerance: 1%; Packaging: Tape and Reel; Package Quantity: 15000; Termination: SMD/SMT; Voltage Rating (DC): 25V; Series: GRM; Length: 0.024inch; Width: 0.012inch; Thickness: 0.013inch; RoHS Compliant: Yes; ComponentLink1URL: https://datasheet.ciiva.com/29538/partnumbering-e-01-29538333.pdf?src-supplier=Digikey; ComponentLink1Description: https://datasheet.ciiva.com/29538/partnumbering-e-01-29538333.pdf?src-supplier=Digikey; Supplier Part Number 1: 81-GRM0335C1E470FA1D
footprint C0201
pins: 1, 2

## CAP CER 47PF 25V X7R 0402
designator C?, comment 47pF
Cap Ceramic 47pF 25V X7R 5% Pad SMD 0402 125C Automotive T/R; Manufacturer: KEMET; Manufacturer Part Number: C0402C470J3RACAUTO; Material: 4241ConductorMaterial; Supplier 1: Mouser; RoHS: Yes; Category: Ceramic Capacitors; Stock 1: 35487; Pricing 1: 1=0.1, 10=0.045, 50=0.045, 100=0.026, 1000=0.02, 10000=0.015 (USD); Case/Package: 0402; Number of Pins: 2NUMBER; Dielectric Material: 4241ConductorMaterial; Min Operating Temperature: -55°C; Max Operating Temperature: 125°C; Packaging: Tape and Reel; Tolerance: 5%; Dielectric: X7R; Capacitance: 47pF; Voltage Rating: 25V; Voltage Rating (DC): 25V; Length: 1mm; Depth: 0.5mm; RoHS Compliant: Yes; ComponentLink1URL: http://www.farnell.com/datasheets/2749614.pdf?src-supplier=Farnell; ComponentLink1Description: http://www.farnell.com/datasheets/2749614.pdf?src-supplier=Farnell; ComponentLink2URL: https://api.kemet.com/component-edge/download/datasheet/C0402C470J3RACAUTO.pdf?src-supplier=Digikey; ComponentLink2Description: https://api.kemet.com/component-edge/download/datasheet/C0402C470J3RACAUTO.pdf?src-supplier=Digikey; ComponentLink3URL: http://www.farnell.com/datasheets/2749614.pdf?src-supplier=Newark; ComponentLink3Description: http://www.farnell.com/datasheets/2749614.pdf?src-supplier=Newark; Supplier Part Number 1: 80-C0402C470J3RAUTO
footprint C0402
pins: 1, 2

## CAP CER 47UF 6.3V X5R 0603
designator C?, comment 47uF
Multilayer Ceramic Capacitor, 47 uF, 6.3 V, ± 20%, X5R, 0603 [1608 Metric]; Manufacturer: Murata; Manufacturer Part Number: GRM188R60J476ME15D; Material: 4241ConductorMaterial; Voltage Rating (DC): 6.3V; Dielectric: 1537DielectricType; Supplier 1: Future Electronics; RoHS: Yes; Category: Ceramic Capacitors; Stock 1: 444000; Pricing 1: 4000=0.11, 8000=0.108, 12000=0.107, 16000=0.106, 20000=0.103 (USD); Height: 1mm; ComponentLink1URL: https://datasheet.octopart.com/GRM188R60J476ME15D-Murata-datasheet-149523200.pdf?src-supplier=Newark; ComponentLink1Description: https://datasheet.octopart.com/GRM188R60J476ME15D-Murata-datasheet-149523200.pdf?src-supplier=Newark; ComponentLink2URL: https://datasheet.octopart.com/GRM188R60J476ME15D-Murata-datasheet-102370999.pdf?src-supplier=Future+Electronics; ComponentLink2Description: https://datasheet.octopart.com/GRM188R60J476ME15D-Murata-datasheet-102370999.pdf?src-supplier=Future+Electronics; ComponentLink3URL: https://www.murata.com/~/media/webrenewal/support/library/catalog/products/capacitor/mlcc/c02e.ashx?la=en-us&src-supplier=Digikey; ComponentLink3Description: https://www.murata.com/~/media/webrenewal/support/library/catalog/products/capacitor/mlcc/c02e.ashx?la=en-us&src-supplier=Digikey; ComponentLink4URL: http://search.murata.co.jp/Ceramy/image/img/A01X/G101/ENG/GRM188R60J476ME15-01.pdf?src-supplier=Digikey; ComponentLink4Description: http://search.murata.co.jp/Ceramy/image/img/A01X/G101/ENG/GRM188R60J476ME15-01.pdf?src-supplier=Digikey; ComponentLink5URL: https://datasheet.octopart.com/GRM188R60J476ME15D-Murata-datasheet-165579666.pdf?src-supplier=TME; ComponentLink5Description: https://datasheet.octopart.com/GRM188R60J476ME15D-Murata-datasheet-165579666.pdf?src-supplier=TME; Supplier Part Number 1: 3096548
footprint C0603C/1608MM (Chip Capacitor, 2-Leads, Body 1.6x0.8mm, IPC High Density)
pins: 1, 2

## CAP CER 47UF 6.3V X5R 0805
designator C?, comment 47uF
Multilayer Ceramic Capacitor, 47 uF, 6.3 V, ± 20%, X5R, 0805 [2012 Metric]; Manufacturer: Murata; Manufacturer Part Number: GRM21BR60J476ME15L; Material: 4241ConductorMaterial; Voltage Rating: 6.3V; Supplier 1: Digikey; RoHS: Yes; Category: Ceramic Capacitors; Mount: Surface Mount; Case/Package: 0805; Case Code (Metric): 2012; Case Code (Imperial): 0805; Weight: 0.000335oz; Min Operating Temperature: -55°C; Max Operating Temperature: 85°C; Packaging: Cut Tape; Capacitance: 47uF; Tolerance: 20%; Dielectric: X5R; Termination: SMD/SMT; Voltage: 6.3V; Voltage Rating (DC): 6.3V; Package Quantity: 3000; Series: GRM; Construction: Flat; Length: 2mm; Width: 0.049inch; Height: 1.25mm; Thickness: 0.057inch; Depth: 1.25mm; Reach SVHC Compliant: No; RoHS Compliant: Yes; Lead Free: 5697LeadFree; ComponentLink1URL: https://datasheet.ciiva.com/46444/1754700-46444997.pdf?src-supplier=Element14; ComponentLink1Description: https://datasheet.ciiva.com/46444/1754700-46444997.pdf?src-supplier=Element14; Supplier Part Number 1: 490-9960-2-ND
footprint C0805B/2012MM (Chip Capacitor, 2-Leads, Body 2.0x1.3mm, IPC Medium Density)
pins: 1, 2

## CAP CER 47UF 16V X5R 1210
designator C?, comment 47uF
Multilayer Ceramic Capacitor, 47 uF, 16 V, ± 20%, X5R, 1210 [3225 Metric]; Manufacturer: KEMET; Manufacturer Part Number: C1210C476M4PACTU; Material: 4241ConductorMaterial; Voltage Rating (DC): 16V; Dissipation Factor: 10%; Supplier 1: Mouser; RoHS: Yes; Category: Ceramic Capacitors; Stock 1: 101296; Pricing 1: 1=1.07, 10=0.675, 50=0.675, 100=0.55, 500=0.45, 1000=0.388, 2000=0.363, 5000=0.344, 10000=0.332, 25000=0.319 (USD); Mount: Surface Mount,PCB; Case/Package: 1210; Number of Pins: 2; Dielectric Material: Ceramic; Case Code (Metric): 3225; Case Code (Imperial): 1210; Min Operating Temperature: -55°C; Max Operating Temperature: 85°C; Capacitance: 47uF; Tolerance: 20%; Packaging: Tape and Reel; Dielectric: X5R; Package Quantity: 1; Voltage Rating: 16V; Termination: SMD/SMT; Series: C; Voltage: 16V; Length: 3.2mm; Width: 0.098inch; Height: 2.5mm; Depth: 2.5mm; Thickness: 0.11inch; Lead Free: 5697LeadFree; Reach SVHC Compliant: No; RoHS Compliant: Yes; ComponentLink1URL: https://datasheet.ciiva.com/22705/652158-22705488.pdf?src-supplier=Element14; ComponentLink1Description: https://datasheet.ciiva.com/22705/652158-22705488.pdf?src-supplier=Element14; ComponentLink2URL: https://datasheet.ciiva.com/28608/1918694-28608774.pdf?src-supplier=Element14; ComponentLink2Description: https://datasheet.ciiva.com/28608/1918694-28608774.pdf?src-supplier=Element14; Supplier Part Number 1: 80-C1210C476M4P
footprint C1210/3225MM
pins: 1, 2

## CAP CER 56PF 50V C0G/NP0 0402
designator C?, comment 56pF
Multilayer Ceramic Capacitor, 56 pF, 50 V, ± 5%, C0G (NP0), 0402 [1005 Metric]; Manufacturer: KEMET; Manufacturer Part Number: C0402C560J5GACTU; Material: 4241ConductorMaterial; Voltage Rating: 50V; Dissipation Factor: 0.1%; Temperature Coefficient: 30ppm/°C; Supplier 1: Mouser; RoHS: Yes; Category: Ceramic Capacitors; Stock 1: 35829; Pricing 1: 1=0.1, 10=0.016, 50=0.016, 100=0.01, 1000=0.007, 10000=0.005, 50000=0.004 (USD); Mount: Surface Mount,PCB; Case/Package: 0402; Case Code (Imperial): 0402; Case Code (Metric): 1005; Dielectric Material: Ceramic; Min Operating Temperature: -55°C; Max Operating Temperature: 125°C; Capacitance: 56pF; Tolerance: 5%; Packaging: Tape and Reel; Package Quantity: 10000; Voltage Rating (DC): 50V; Dielectric: C0G; Termination: SMD/SMT; Series: C0402C; Voltage: 50V; Construction: Flat; Length: 1mm; Height: 0.5mm; Lead Pitch: 0.3mm; Depth: 0.5mm; RoHS Compliant: Yes; Lead Free: 5697LeadFree; ComponentLink1URL: https://datasheet.ciiva.com/11786/0900766b8116eaf8-11786223.pdf?src-supplier=Rs; ComponentLink1Description: https://datasheet.ciiva.com/11786/0900766b8116eaf8-11786223.pdf?src-supplier=Rs; ComponentLink2URL: https://datasheet.ciiva.com/5424/kem-c1003-c0g-smd-5424440.pdf?src-supplier=Mouser; ComponentLink2Description: https://datasheet.ciiva.com/5424/kem-c1003-c0g-smd-5424440.pdf?src-supplier=Mouser; Supplier Part Number 1: 80-C0402C560J5G
footprint C0402
pins: 1, 2

## CAP CER 68PF 50V X7R 0402
designator C?, comment 68pF
Cap Ceramic 68pF 50V X7R 10% Pad SMD 0402 125°C Automotive T/R; Manufacturer: KEMET; Manufacturer Part Number: C0402C680K5RACAUTO; Supplier 1: Mouser; RoHS: Yes; Category: Ceramic Capacitors; Stock 1: 17277; Pricing 1: 1=0.24, 10=0.11, 50=0.11, 100=0.063, 1000=0.055, 10000=0.047 (USD); ComponentLink1URL: https://datasheet.octopart.com/C0402C680K5RACAUTO-KEMET-datasheet-153706760.pdf?src-supplier=Electro+Sonic; ComponentLink1Description: https://datasheet.octopart.com/C0402C680K5RACAUTO-KEMET-datasheet-153706760.pdf?src-supplier=Electro+Sonic; Supplier Part Number 1: 80-C0402C680K5RAUTO
footprint C0402
pins: 1, 2

## CAP CER 100PF 50V C0G/NP0 0201
designator C?, comment 100pF
Multilayer Ceramic Capacitor, 100 pF, 50 V, ± 5%, C0G (NP0), 0201 [0603 Metric]; Manufacturer: Murata; Manufacturer Part Number: GRM0335C1H101JA01D; Material: 4241ConductorMaterial; Temperature Coefficient: 30ppm/°C; Supplier 1: Future Electronics; RoHS: Yes; Category: Ceramic Capacitors; Stock 1: 1155000; Pricing 1: 15000=0.0015, 60000=0.0014, 75000=0.0014, 300000=0.0013, 600000=0.0013, 750000=0.0013, 1875000=0.0012 (USD); Lead Free: 5697LeadFree; ComponentLink1URL: https://datasheet.ciiva.com/26843/getdatasheetpartid-745940-26843721.pdf?src-supplier=Verical; ComponentLink1Description: https://datasheet.ciiva.com/26843/getdatasheetpartid-745940-26843721.pdf?src-supplier=Verical; ComponentLink2URL: https://datasheet.ciiva.com/16467/grm0335c1h101ja01-01-16467335.pdf?src-supplier=Future+Electronics; ComponentLink2Description: https://datasheet.ciiva.com/16467/grm0335c1h101ja01-01-16467335.pdf?src-supplier=Future+Electronics; ComponentLink3URL: https://datasheet.ciiva.com/6271/partnumbering-e-01-6271180.pdf?src-supplier=Digikey; ComponentLink3Description: https://datasheet.ciiva.com/6271/partnumbering-e-01-6271180.pdf?src-supplier=Digikey; ComponentLink4URL: https://datasheet.ciiva.com/6271/partnumbering-e-01-6271183.pdf?src-supplier=Digikey; ComponentLink4Description: https://datasheet.ciiva.com/6271/partnumbering-e-01-6271183.pdf?src-supplier=Digikey; Supplier Part Number 1: 1914423
footprint C0201
pins: 1, 2

## CAP CER 100PF 50V C0G/NP0 0402
designator C?, comment 100pF
Multilayer Ceramic Capacitor, 100 pF, 50 V, ï¿½ 1%, C0G (NP0), 0402 [1005 Metric]; Manufacturer: Murata; Manufacturer Part Number: GCM1555C1H101FA16D; Material: 4241ConductorMaterial; Temperature Coefficient: 30ppm/°C; Supplier 1: Future Electronics; RoHS: Yes; Category: Ceramic Capacitors; Stock 1: 70000; Pricing 1: 10000=0.0084, 30000=0.0081, 50000=0.008, 150000=0.0078, 250000=0.0076 (USD); Length: 1mm; Width: 500um; Height: 550um; Thickness: 500um; ComponentLink1URL: http://search.murata.co.jp/Ceramy/image/img/A01X/partnumbering_e_02.pdf?src-supplier=Digikey; ComponentLink1Description: http://search.murata.co.jp/Ceramy/image/img/A01X/partnumbering_e_02.pdf?src-supplier=Digikey; ComponentLink2URL: https://search.murata.co.jp/Ceramy/image/img/A01X/G101/ENG/GCM1555C1H101FA16-01.pdf?src-supplier=Digikey; ComponentLink2Description: https://search.murata.co.jp/Ceramy/image/img/A01X/G101/ENG/GCM1555C1H101FA16-01.pdf?src-supplier=Digikey; ComponentLink3URL: https://datasheet.octopart.com/GCM1555C1H101FA16D-Murata-datasheet-149522304.pdf?src-supplier=Newark; ComponentLink3Description: https://datasheet.octopart.com/GCM1555C1H101FA16D-Murata-datasheet-149522304.pdf?src-supplier=Newark; ComponentLink4URL: https://datasheet.octopart.com/GCM1555C1H101FA16D-Murata-datasheet-12511495.pdf?src-supplier=TME; ComponentLink4Description: https://datasheet.octopart.com/GCM1555C1H101FA16D-Murata-datasheet-12511495.pdf?src-supplier=TME; ComponentLink5URL: https://datasheet.octopart.com/GCM1555C1H101FA16D-Murata-datasheet-140568678.pdf?src-supplier=Arrow.cn; ComponentLink5Description: https://datasheet.octopart.com/GCM1555C1H101FA16D-Murata-datasheet-140568678.pdf?src-supplier=Arrow.cn; Supplier Part Number 1: 5113499
footprint C0402
pins: 1, 2

## CAP CER 100PF 50V X7R 0402
designator C?, comment 100pF
Multilayer Ceramic Capacitor, 100 pF, 50 V, ï¿½ 10%, X7R, 0402 [1005 Metric]; Manufacturer: Yageo; Manufacturer Part Number: CC0402KRX7R9BB101; Material: 4241ConductorMaterial; Temperature Coefficient: 30ppm/°C; Voltage Rating (AC): 50V; Insulation Resistance: 100GR; Supplier 1: Future Electronics; RoHS: Yes; Category: Ceramic Capacitors; Stock 1: 2040000; Pricing 1: 10000=0.0022, 40000=0.0021, 150000=0.002, 400000=0.0019, 1000000=0.0018 (USD); Lead Free: 5697LeadFree; Halogen Free: 5694HalogenFree; ComponentLink1URL: https://datasheet.ciiva.com/26862/getdatasheetpartid-104321-26862640.pdf?src-supplier=Verical; ComponentLink1Description: https://datasheet.ciiva.com/26862/getdatasheetpartid-104321-26862640.pdf?src-supplier=Verical; ComponentLink2URL: https://datasheet.ciiva.com/11464/upy-gphc-x7r-6-3v-to-50v-8-11464895.pdf?src-supplier=Avnet; ComponentLink2Description: https://datasheet.ciiva.com/11464/upy-gphc-x7r-6-3v-to-50v-8-11464895.pdf?src-supplier=Avnet; ComponentLink3URL: https://datasheet.ciiva.com/15375/upy-gp-np0-16v-to-50v-8-15375878.pdf?src-supplier=Mouser; ComponentLink3Description: https://datasheet.ciiva.com/15375/upy-gp-np0-16v-to-50v-8-15375878.pdf?src-supplier=Mouser; ComponentLink4URL: https://datasheet.ciiva.com/176/mlccorderingcode-176371.pdf?src-supplier=Digikey; ComponentLink4Description: https://datasheet.ciiva.com/176/mlccorderingcode-176371.pdf?src-supplier=Digikey; ComponentLink5URL: https://datasheet.ciiva.com/176/mlccorderingcode-176372.pdf?src-supplier=Digikey; ComponentLink5Description: https://datasheet.ciiva.com/176/mlccorderingcode-176372.pdf?src-supplier=Digikey; ComponentLink6URL: https://datasheet.ciiva.com/176/mlccorderingcode-176373.pdf?src-supplier=Digikey; ComponentLink6Description: https://datasheet.ciiva.com/176/mlccorderingcode-176373.pdf?src-supplier=Digikey; Supplier Part Number 1: 6594006
footprint C0402
pins: 1, 2

## CAP CER 220PF 25V X7R 0402
designator C?, comment 220pF
CAP CER 220PF 25V X7R 0402; Manufacturer PN: C0402C221K3RAC7867; Manufacturer: KEMET; JLCPCB PN: C2170212
footprint C0402 (Footprint not found)
pins: 1, 2

## CAP CER 0402 1NF 25V C0G 10%
designator C?, comment 1nF
Multilayer Ceramic Capacitors MLCC - SMD/SMT 25V 1000pF C0G 0402 10% AEC-Q200; Manufacturer: KEMET; Manufacturer Part Number: C0402C102K3GECAUTO7411; Supplier 1: Mouser; RoHS: Yes; Category: Ceramic Capacitors; Stock 1: 38041; Pricing 1: 1=0.15, 10=0.065, 50=0.065, 100=0.038, 1000=0.029, 10000=0.023 (USD); RoHS Compliant: Yes; ComponentLink1URL: https://api.kemet.com/component-edge/download/datasheet/C0402C102K3GECAUTO7411.pdf?src-supplier=Digikey; ComponentLink1Description: https://api.kemet.com/component-edge/download/datasheet/C0402C102K3GECAUTO7411.pdf?src-supplier=Digikey; Supplier Part Number 1: 80-C0402C102K3GEAULR
footprint C0402
pins: 1, 2

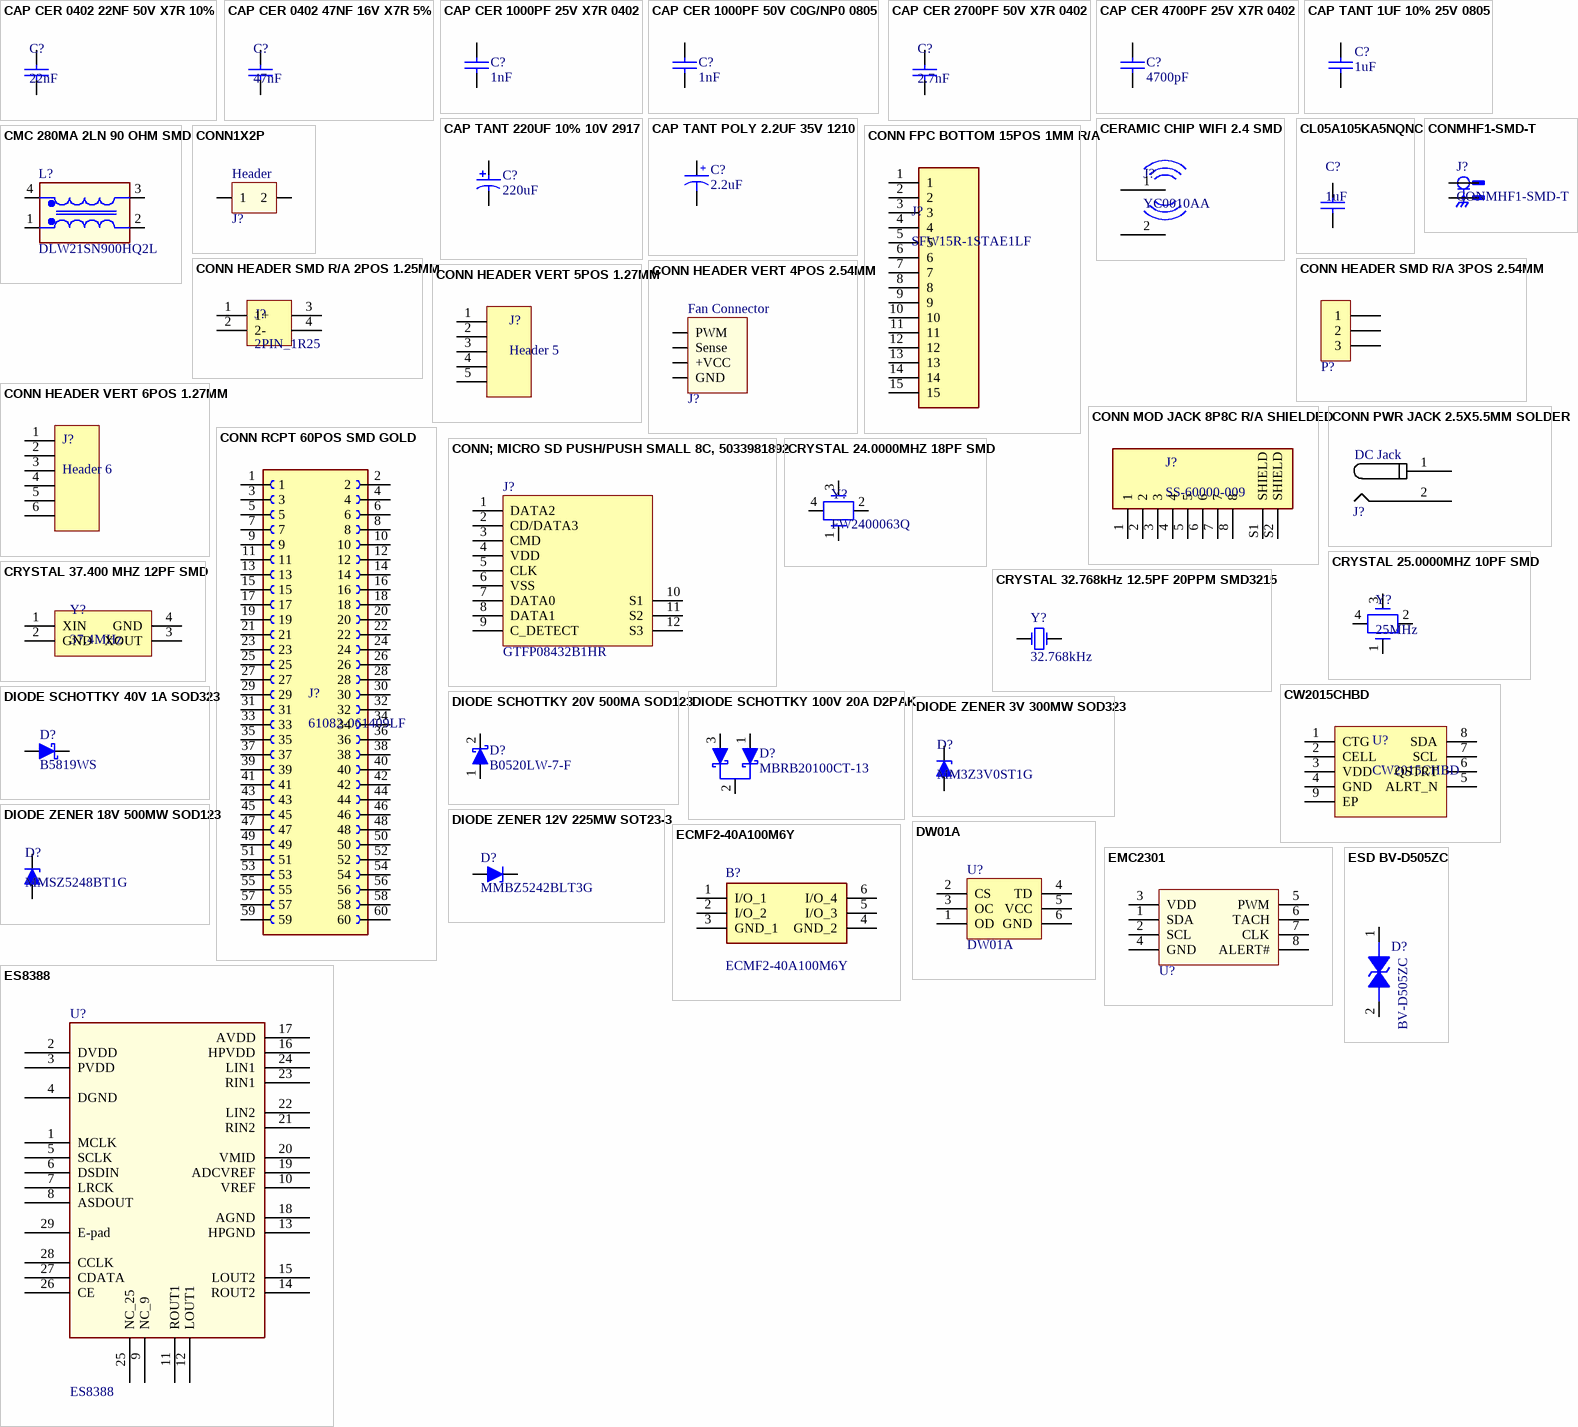
[diagram p2: symbols CAP CER 0402 22NF 50V X7R 10% to ESD BV-D505ZC]